# EAGLE library part ANALOG_DEVICES_ADXRS646BBGZ (library Analog Devices - ADXRS646BBGZ-EVAL)
ADI-ADXRS646-BG-32-3
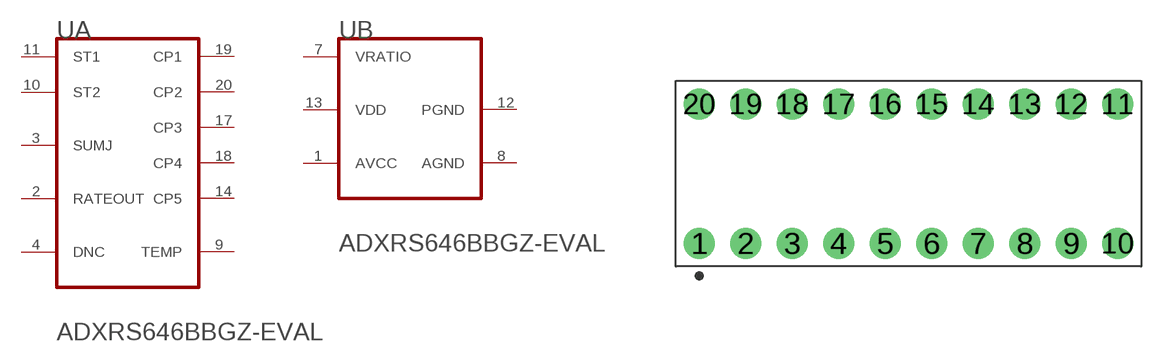
[diagram p0: symbol with the pads of HDRVR20W64P762X254_2X10_2540X1016X254B; footprint HDRVR20W64P762X254_2X10_2540X1016X254B]

Designator prefix U; gates A=ANALOG_DEVICES_ADXRS646BBGZ_0_0 B=ANALOG_DEVICES_ADXRS646BBGZ_0_1

## ANALOG_DEVICES_ADXRS646BBGZEVAL  [HDRVR20W64P762X254_2X10_2540X1016X254B]
1  B:AVCC  pwr
2  A:RATEOUT  out
3  A:SUMJ  in
4  A:DNC  pas
7  B:VRATIO  pwr
8  B:AGND  pwr
9  A:TEMP  out
10  A:ST2  in
11  A:ST1  in
12  B:PGND  pwr
13  B:VDD  pwr
14  A:CP5  pwr
17  A:CP3  pas
18  A:CP4  pas
19  A:CP1  pas
20  A:CP2  pas

## Footprint HDRVR20W64P762X254_2X10_2540X1016X254B (pad centres in mm)
Double-row, 20-pin Receptacle Header (Female) Straight, 7.62 mm (0.30 in) row pitch, 2.54 mm (0.10 in) col pitch, 2.54 mm insulator length, 25.40 X 10.16 X 2.54 mm body Double-row (2X10), 20-pin Receptacle Header (Female) Straight package with 7.62 mm (0.30 in) row pitch, 2.54 mm (0.10 in) col pitch, 0.64 mm lead width, 3.00 mm tail length and 2.54 mm insulator length with overall size 25.40 X 10.16 X 2.54 mm, pin pattern - counter-clockwise from bottom left
drill 1.105 pad 1.705: 1 0,0; 2 2.54,0; 3 5.08,0; 4 7.62,0; 5 10.16,0; 6 12.7,0; 7 15.24,0; 8 17.78,0; 9 20.32,0; 10 22.86,0; 11 22.86,7.62; 12 20.32,7.62; 13 17.78,7.62; 14 15.24,7.62; 15 12.7,7.62; 16 10.16,7.62; 17 7.62,7.62; 18 5.08,7.62; 19 2.54,7.62; 20 0,7.62